# Altium schematic symbol library XT60.SchLib: 1 symbol
Pins are listed as number, name and electrical type; pins without a type are passive.

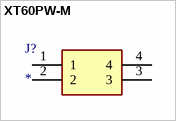
[diagram p0: symbol XT60PW-M]

## XT60PW-M
designator J?
Connector; Manufacturer_Name: Changzou Amass Elec; Manufacturer_Part_Number: XT60PW-M; Datasheet Link: https://www.tme.eu/Document/9b8d0c5eb7094295f3d3112c214d3ade/XT60PW%20SPEC.pdf; Height: 8.4mm
footprint XT60PWM
pins: 1, 2, 3, 4